# Altium footprint library HCPL-3120.PcbLib: 1 footprints
Each footprint in its own frame and in the unit in brackets; x right, y up, seen from the top. Pads: shape width x height; smd on the part's side, far side on the other; paste and mask are expansions set on the pad; w line width, h text height; cw(c..) or ccw(c..) is an arc to the next point about the centre after c.
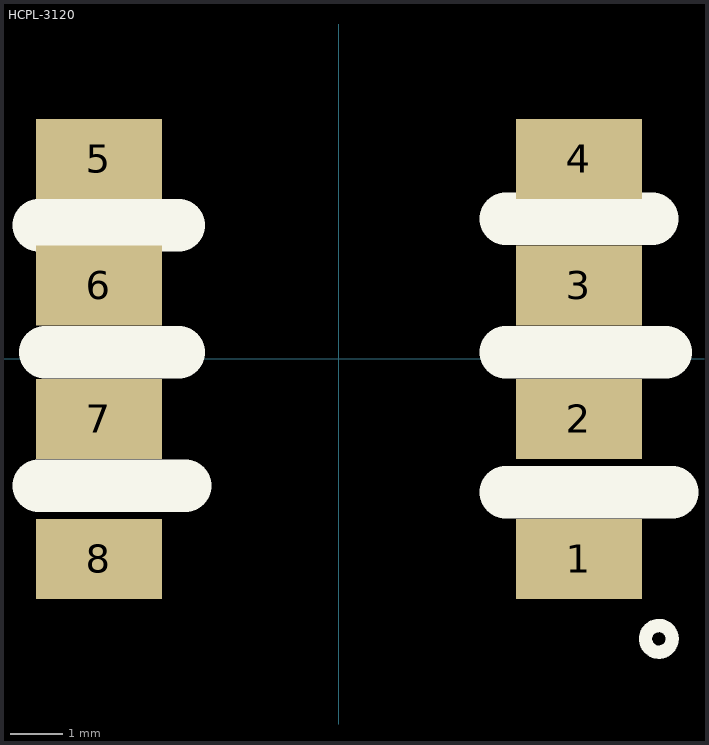
[diagram p0: the footprint, top view; thin cyan lines are the x and y axes]

## HCPL-3120 [mil]
pads (8):
  rect 94.49x60 smd mask+4: 1(180,-150) 2(180,-45) 3(180,55) 4(180,150) 5(-180,150) 6(-180,55) 7(-180,-45) 8(-180,-150)
Top Overlay:
  circle w10: c240,-210 r10
  lines w39.37: -225,-95 -115,-95 ; -225,100 -120,100 ; -220,5 -120,5 ; 125,-100 250,-100 ; 125,5 245,5 ; 125,105 235,105
3D body "HCPL-3120.STEP": height 181.1, standoff -1.97, extent -190.94,-190.94 190.94,190.94